# Altium integrated library TI_LDO_3V3_SOT325.IntLib: 2 symbols
Pins are listed as number, name and electrical type; pins without a type are passive.

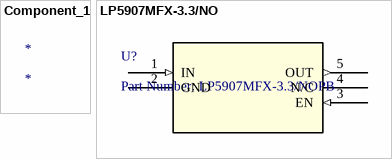
[diagram p0: symbols Component_1 to LP5907MFX-3.3/NO]

## Component_1
designator *

## LP5907MFX-3.3/NO
designator U?, comment Part Number: LP5907MFX-3.3/NOPB
No Description Available; Vendor: Texas Instruments; Built_By: EMA_UL_Team; Manufacturer_Part_Number: LP5907MFX-3.3/NOPB; Copyright: Copyright (C) 2018 Accelerated Designs. All rights reserved; RefDes: RefDes; Type: DEV; Value: Value
footprint DBV5
pins: 1 IN (in), 2 GND (power), 3 EN (in), 4 N/C, 5 OUT (out)